# Altium integrated library NSC MiscPower.IntLib: 675 symbols (part 12 of 17)
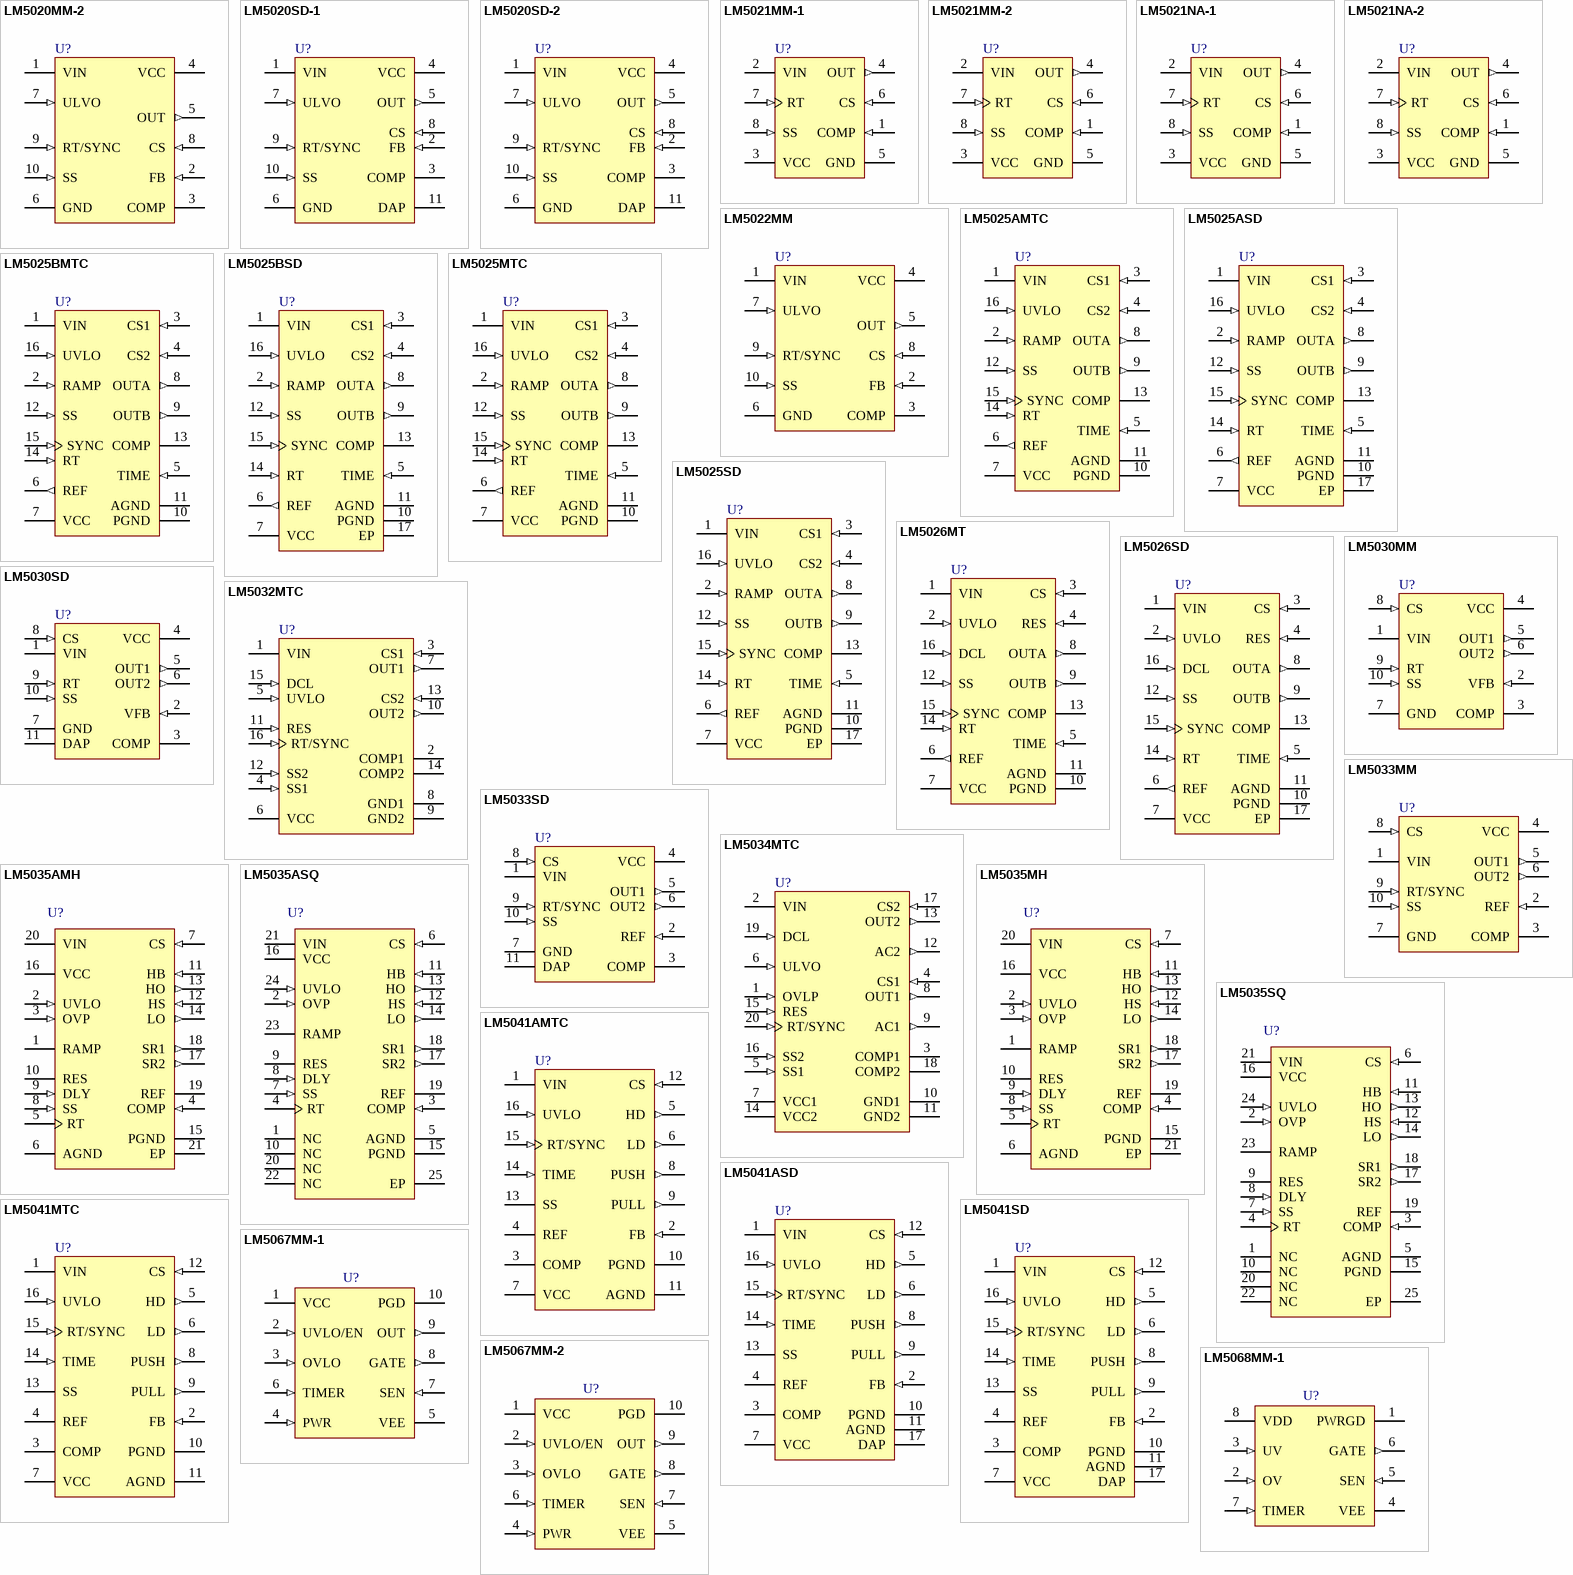
[diagram p33: symbols LM5020MM-2 to LM5068MM-1]

## LM5021NA-2
designator U?
AC-DC Current Mode PWM Controller; PartNumber: LM5021NA-2; Manufacturer: National Semiconductor; CompType: MiscPower; PackageTopMarking: NSUZXYTT*LM5021NA*-2; Published: 4-Dec-2008; DatasheetVersion: Jun-2006; PackageVersion: revG, May-2006; PackageReference: N08E; Publisher: Altium Limited; PackageDescription: MDIP, .365 x .250 x .130in, 8 Lead, .100in Pitch; RoHS: Y; PinCount: 8; DigiKeyPartNumber: LM5021NA-2-ND; Code_JEDEC: MS-001-BA; ComponentLink1Description: LM5021 Datasheet; ComponentLink1URL: http://www.national.com/ds/LM/LM5021.pdf; ComponentLink2Description: LM5021 Web Page; ComponentLink2URL: http://www.national.com/pf/LM/LM5021.html; ComponentLink3Description: N08E Package Page; ComponentLink3URL: http://www.national.com/packaging/folders/n08e.html
footprint N08E (DIP, 8-Leads, Row Spacing 7.62mm, Pitch 2.54mm, Body 9.91x6.35mm)
pins: 1 COMP (in), 2 VIN (power), 3 VCC (power), 4 OUT (out), 5 GND (power), 6 CS (in), 7 RT (in), 8 SS (in)

## LM5022MM
designator U?
60V Low Side  Controller for Boost and SEPIC; PartNumber: LM5022MM; Manufacturer: National Semiconductor; CompType: MiscPower; PackageTopMarking: ZXTT*5022; Published: 4-Dec-2008; DatasheetVersion: Aug-2007; PackageVersion: revB, Jul-2003; PackageReference: MUB10A; Publisher: Altium Limited; PackageDescription: Mini-SO, Molded, .118 x .118 x .034in Body, 10 Lead, .0197in Pitch; RoHS: Y; PinCount: 10; DigiKeyPartNumber: LM5022MMCT-ND; Code_JEDEC: MO-187-BA; ComponentLink1Description: LM5022 Datasheet; ComponentLink1URL: http://www.national.com/ds/LM/LM5022.pdf; ComponentLink2Description: LM5022 Web Page; ComponentLink2URL: http://www.national.com/pf/LM/LM5022.html; ComponentLink3Description: MUB10A Package Page; ComponentLink3URL: http://www.national.com/packaging/folders/mub10a.html
footprint MUB10A_N (TSSOP, 10-Leads, Body 3x3mm, Pitch 0.5mm, IPC Medium Density)
footprint MUB10A_L (TSSOP, 10-Leads, Body 3x3mm, Pitch 0.5mm, IPC High Density)
footprint MUB10A_M (TSSOP, 10-Leads, Body 3x3mm, Pitch 0.5mm, IPC Low Density)
pins: 1 VIN (power), 2 FB (in), 3 COMP, 4 VCC (power), 5 OUT (out), 6 GND (power), 7 ULVO (in), 8 CS (in), 9 RT/SYNC (in), 10 SS (in)

## LM5025AMTC
designator U?
Active Clamp Voltage Mode PWM Controller; PartNumber: LM5025AMTC; Manufacturer: National Semiconductor; CompType: MiscPower; PackageTopMarking: NSUZXYTT*L5025A*MTC; Published: 4-Dec-2008; DatasheetVersion: Dec-2004; PackageVersion: revD, Jun-2003; PackageReference: MTC16; Publisher: Altium Limited; PackageDescription: Molded TSSOP, Jedec, 5 x 4.4 x 0.9mm Body, 16 Lead, 0.65mm Pitch; RoHS: Y; PinCount: 16; DigiKeyPartNumber: LM5025AMTC-ND; Code_JEDEC: MO-153-AB; ComponentLink1Description: LM5025A Datasheet; ComponentLink1URL: http://www.national.com/ds/LM/LM5025A.pdf; ComponentLink2Description: LM5025A Web Page; ComponentLink2URL: http://www.national.com/pf/LM/LM5025A.html; ComponentLink3Description: MTC16 Package Page; ComponentLink3URL: http://www.national.com/packaging/folders/mtc16.html
footprint MTC16_N (TSOP, 16-Leads, Body 5x4.4mm, Pitch 0.65mm, IPC Medium Density)
footprint MTC16_L (TSOP, 16-Leads, Body 5x4.4mm, Pitch 0.65mm, IPC High Density)
footprint MTC16_M (TSOP, 16-Leads, Body 5x4.4mm, Pitch 0.65mm, IPC Low Density)
pins: 1 VIN (power), 2 RAMP (in), 3 CS1 (in), 4 CS2 (in), 5 TIME (in), 6 REF (out), 7 VCC (power), 8 OUTA (out), 9 OUTB (out), 10 PGND (power), 11 AGND (power), 12 SS (in), 13 COMP, 14 RT (in), 15 SYNC (in), 16 UVLO (in)

## LM5025ASD
designator U?
Active Clamp Voltage Mode PWM Controller; PartNumber: LM5025ASD; Manufacturer: National Semiconductor; CompType: MiscPower; PackageTopMarking: NS*UZXYTT*5025ASD; Published: 4-Dec-2008; DatasheetVersion: Dec-2004; PackageVersion: revA, May-2003; PackageReference: SDA16A; Publisher: Altium Limited; PackageDescription: LLP, Plastic, Dual, 5 x 5 x 0.8mm Body,16 Lead, 0.5mm Pitch, No Pullback; RoHS: Y; PinCount: 16; DigiKeyPartNumber: LM5025ASDCT-ND; ComponentLink1Description: LM5025A Datasheet; ComponentLink1URL: http://www.national.com/ds/LM/LM5025A.pdf; ComponentLink2Description: LM5025A Web Page; ComponentLink2URL: http://www.national.com/pf/LM/LM5025A.html; ComponentLink3Description: SDA16A Package Page; ComponentLink3URL: http://www.national.com/packaging/folders/sda16a.html
footprint SDA16A (SON, 16-Leads, Body 5x5mm, Pitch 0.5mm, NSC Recommended)
pins: 1 VIN (power), 2 RAMP (in), 3 CS1 (in), 4 CS2 (in), 5 TIME (in), 6 REF (out), 7 VCC (power), 8 OUTA (out), 9 OUTB (out), 10 PGND (power), 11 AGND (power), 12 SS (in), 13 COMP, 14 RT (in), 15 SYNC (in), 16 UVLO (in), 17 EP (power)

## LM5025BMTC
designator U?
Active Clamp Voltage Mode PWM Controller; PartNumber: LM5025BMTC; Manufacturer: National Semiconductor; CompType: MiscPower; PackageTopMarking: NSUZXYTT*L5025B*MTC; Published: 4-Dec-2008; DatasheetVersion: Mar-2006; PackageVersion: revD, Jun-2003; PackageReference: MTC16; Publisher: Altium Limited; PackageDescription: Molded TSSOP, Jedec, 5 x 4.4 x 0.9mm Body, 16 Lead, 0.65mm Pitch; RoHS: Y; PinCount: 16; DigiKeyPartNumber: LM5025BMTC-ND; Code_JEDEC: MO-153-AB; ComponentLink1Description: LM5025B Datasheet; ComponentLink1URL: http://www.national.com/ds/LM/LM5025B.pdf; ComponentLink2Description: LM5025B Web Page; ComponentLink2URL: http://www.national.com/pf/LM/LM5025B.html; ComponentLink3Description: MTC16 Package Page; ComponentLink3URL: http://www.national.com/packaging/folders/mtc16.html
footprint MTC16_N (TSOP, 16-Leads, Body 5x4.4mm, Pitch 0.65mm, IPC Medium Density)
footprint MTC16_L (TSOP, 16-Leads, Body 5x4.4mm, Pitch 0.65mm, IPC High Density)
footprint MTC16_M (TSOP, 16-Leads, Body 5x4.4mm, Pitch 0.65mm, IPC Low Density)
pins: 1 VIN (power), 2 RAMP (in), 3 CS1 (in), 4 CS2 (in), 5 TIME (in), 6 REF (out), 7 VCC (power), 8 OUTA (out), 9 OUTB (out), 10 PGND (power), 11 AGND (power), 12 SS (in), 13 COMP, 14 RT (in), 15 SYNC (in), 16 UVLO (in)

## LM5025BSD
designator U?
Active Clamp Voltage Mode PWM Controller; PartNumber: LM5025BSD; Manufacturer: National Semiconductor; CompType: MiscPower; PackageTopMarking: NS*UZXYTT*5025BSD; Published: 4-Dec-2008; DatasheetVersion: Mar-2006; PackageVersion: revA, May-2003; PackageReference: SDA16A; Publisher: Altium Limited; PackageDescription: LLP, Plastic, Dual, 5 x 5 x 0.8mm Body,16 Lead, 0.5mm Pitch, No Pullback; RoHS: Y; PinCount: 16; DigiKeyPartNumber: LM5025BSDCT-ND; ComponentLink1Description: LM5025B Datasheet; ComponentLink1URL: http://www.national.com/ds/LM/LM5025B.pdf; ComponentLink2Description: LM5025B Web Page; ComponentLink2URL: http://www.national.com/pf/LM/LM5025B.html; ComponentLink3Description: SDA16A Package Page; ComponentLink3URL: http://www.national.com/packaging/folders/sda16a.html
footprint SDA16A (SON, 16-Leads, Body 5x5mm, Pitch 0.5mm, NSC Recommended)
pins: 1 VIN (power), 2 RAMP (in), 3 CS1 (in), 4 CS2 (in), 5 TIME (in), 6 REF (out), 7 VCC (power), 8 OUTA (out), 9 OUTB (out), 10 PGND (power), 11 AGND (power), 12 SS (in), 13 COMP, 14 RT (in), 15 SYNC (in), 16 UVLO (in), 17 EP (power)

## LM5025MTC
designator U?
Active Clamp Voltage Mode PWM Controller; PartNumber: LM5025MTC; Manufacturer: National Semiconductor; CompType: MiscPower; PackageTopMarking: NSZXYTT*LM5025*MTC; Published: 4-Dec-2008; DatasheetVersion: Mar-2004; PackageVersion: revD, Jun-2003; PackageReference: MTC16; Publisher: Altium Limited; PackageDescription: Molded TSSOP, Jedec, 5 x 4.4 x 0.9mm Body, 16 Lead, 0.65mm Pitch; RoHS: Y; PinCount: 16; DigiKeyPartNumber: LM5025MTC-ND; Code_JEDEC: MO-153-AB; ComponentLink1Description: LM5025 Datasheet; ComponentLink1URL: http://www.national.com/ds/LM/LM5025.pdf; ComponentLink2Description: LM5025 Web Page; ComponentLink2URL: http://www.national.com/pf/LM/LM5025.html; ComponentLink3Description: MTC16 Package Page; ComponentLink3URL: http://www.national.com/packaging/folders/mtc16.html
footprint MTC16_N (TSOP, 16-Leads, Body 5x4.4mm, Pitch 0.65mm, IPC Medium Density)
footprint MTC16_L (TSOP, 16-Leads, Body 5x4.4mm, Pitch 0.65mm, IPC High Density)
footprint MTC16_M (TSOP, 16-Leads, Body 5x4.4mm, Pitch 0.65mm, IPC Low Density)
pins: 1 VIN (power), 2 RAMP (in), 3 CS1 (in), 4 CS2 (in), 5 TIME (in), 6 REF (out), 7 VCC (power), 8 OUTA (out), 9 OUTB (out), 10 PGND (power), 11 AGND (power), 12 SS (in), 13 COMP, 14 RT (in), 15 SYNC (in), 16 UVLO (in)

## LM5025SD
designator U?
Active Clamp Voltage Mode PWM Controller; PartNumber: LM5025SD; Manufacturer: National Semiconductor; CompType: MiscPower; PackageTopMarking: NS*UZXYTT*5025SD; Published: 4-Dec-2008; DatasheetVersion: Mar-2004; PackageVersion: revA, May-2003; PackageReference: SDA16A; Publisher: Altium Limited; PackageDescription: LLP, Plastic, Dual, 5 x 5 x 0.8mm Body,16 Lead, 0.5mm Pitch, No Pullback; RoHS: Y; PinCount: 16; DigiKeyPartNumber: LM5025SDCT-ND; ComponentLink1Description: LM5025 Datasheet; ComponentLink1URL: http://www.national.com/ds/LM/LM5025.pdf; ComponentLink2Description: LM5025 Web Page; ComponentLink2URL: http://www.national.com/pf/LM/LM5025.html; ComponentLink3Description: SDA16A Package Page; ComponentLink3URL: http://www.national.com/packaging/folders/sda16a.html
footprint SDA16A (SON, 16-Leads, Body 5x5mm, Pitch 0.5mm, NSC Recommended)
pins: 1 VIN (power), 2 RAMP (in), 3 CS1 (in), 4 CS2 (in), 5 TIME (in), 6 REF (out), 7 VCC (power), 8 OUTA (out), 9 OUTB (out), 10 PGND (power), 11 AGND (power), 12 SS (in), 13 COMP, 14 RT (in), 15 SYNC (in), 16 UVLO (in), 17 EP (power)

## LM5026MT
designator U?
Active Clamp Current Mode PWM Controller; PartNumber: LM5026MT; Manufacturer: National Semiconductor; CompType: MiscPower; PackageTopMarking: NSUZXYTT*LM5026*MT; Published: 4-Dec-2008; DatasheetVersion: Jan-2006; PackageVersion: revD, Jun-2003; PackageReference: MTC16; Publisher: Altium Limited; PackageDescription: Molded TSSOP, Jedec, 5 x 4.4 x 0.9mm Body, 16 Lead, 0.65mm Pitch; RoHS: Y; PinCount: 16; DigiKeyPartNumber: LM5026MT-ND; Code_JEDEC: MO-153-AB; ComponentLink1Description: LM5026 Datasheet; ComponentLink1URL: http://www.national.com/ds/LM/LM5026.pdf; ComponentLink2Description: LM5026 Web Page; ComponentLink2URL: http://www.national.com/pf/LM/LM5026.html; ComponentLink3Description: MTC16 Package Page; ComponentLink3URL: http://www.national.com/packaging/folders/mtc16.html
footprint MTC16_N (TSOP, 16-Leads, Body 5x4.4mm, Pitch 0.65mm, IPC Medium Density)
footprint MTC16_L (TSOP, 16-Leads, Body 5x4.4mm, Pitch 0.65mm, IPC High Density)
footprint MTC16_M (TSOP, 16-Leads, Body 5x4.4mm, Pitch 0.65mm, IPC Low Density)
pins: 1 VIN (power), 2 UVLO (in), 3 CS (in), 4 RES (in), 5 TIME (in), 6 REF (out), 7 VCC (power), 8 OUTA (out), 9 OUTB (out), 10 PGND (power), 11 AGND (power), 12 SS (in), 13 COMP, 14 RT (in), 15 SYNC (in), 16 DCL (in)

## LM5026SD
designator U?
Active Clamp Current Mode PWM Controller; PartNumber: LM5026SD; Manufacturer: National Semiconductor; CompType: MiscPower; PackageTopMarking: NS*UZXYTT*5026SD; Published: 4-Dec-2008; DatasheetVersion: Jan-2006; PackageVersion: revA, May-2003; PackageReference: SDA16A; Publisher: Altium Limited; PackageDescription: LLP, Plastic, Dual, 5 x 5 x 0.8mm Body,16 Lead, 0.5mm Pitch, No Pullback; RoHS: Y; PinCount: 16; DigiKeyPartNumber: LM5026SDCT-ND; ComponentLink1Description: LM5026 Datasheet; ComponentLink1URL: http://www.national.com/ds/LM/LM5026.pdf; ComponentLink2Description: LM5026 Web Page; ComponentLink2URL: http://www.national.com/pf/LM/LM5026.html; ComponentLink3Description: SDA16A Package Page; ComponentLink3URL: http://www.national.com/packaging/folders/sda16a.html
footprint SDA16A (SON, 16-Leads, Body 5x5mm, Pitch 0.5mm, NSC Recommended)
pins: 1 VIN (power), 2 UVLO (in), 3 CS (in), 4 RES (in), 5 TIME (in), 6 REF (out), 7 VCC (power), 8 OUTA (out), 9 OUTB (out), 10 PGND (power), 11 AGND (power), 12 SS (in), 13 COMP, 14 RT (in), 15 SYNC (in), 16 DCL (in), 17 EP (power)

## LM5030MM
designator U?
100V Push-Pull Current Mode PWM Controller; PartNumber: LM5030MM; Manufacturer: National Semiconductor; CompType: MiscPower; PackageTopMarking: ZXTT*S73B; Published: 4-Dec-2008; DatasheetVersion: Mar-2005; PackageVersion: revB, Jul-2003; PackageReference: MUB10A; Publisher: Altium Limited; PackageDescription: Mini-SO, Molded, .118 x .118 x .034in Body, 10 Lead, .0197in Pitch; RoHS: Y; PinCount: 10; DigiKeyPartNumber: LM5030MMCT-ND; Code_JEDEC: MO-187-BA; ComponentLink1Description: LM5030 Datasheet; ComponentLink1URL: http://www.national.com/ds/LM/LM5030.pdf; ComponentLink2Description: LM5030 Web Page; ComponentLink2URL: http://www.national.com/pf/LM/LM5030.html; ComponentLink3Description: MUB10A Package Page; ComponentLink3URL: http://www.national.com/packaging/folders/mub10a.html
footprint MUB10A_N (TSSOP, 10-Leads, Body 3x3mm, Pitch 0.5mm, IPC Medium Density)
footprint MUB10A_L (TSSOP, 10-Leads, Body 3x3mm, Pitch 0.5mm, IPC High Density)
footprint MUB10A_M (TSSOP, 10-Leads, Body 3x3mm, Pitch 0.5mm, IPC Low Density)
pins: 1 VIN (power), 2 VFB (in), 3 COMP, 4 VCC (power), 5 OUT1 (out), 6 OUT2 (out), 7 GND (power), 8 CS (in), 9 RT (in), 10 SS (in)

## LM5030SD
designator U?
100V Push-Pull Current Mode PWM Controller; PartNumber: LM5030SD; Manufacturer: National Semiconductor; CompType: MiscPower; PackageTopMarking: NS*UZXYTT*5030SD; Published: 4-Dec-2008; DatasheetVersion: Mar-2005; PackageVersion: revA, May-2003; PackageReference: SDC10A; Publisher: Altium Limited; PackageDescription: LLP, Plastic, Dual, 4 x 4 x 0.8mm Body, 10 Lead, 0.8mm Pitch, No Pullback; RoHS: Y; PinCount: 10; DigiKeyPartNumber: LM5030SDCT-ND; ComponentLink1Description: LM5030 Datasheet; ComponentLink1URL: http://www.national.com/ds/LM/LM5030.pdf; ComponentLink2Description: LM5030 Web Page; ComponentLink2URL: http://www.national.com/pf/LM/LM5030.html; ComponentLink3Description: SDC10A Package Page; ComponentLink3URL: http://www.national.com/packaging/folders/sdc10a.html
footprint SDC10A (SON, 10-Leads, Body 4x4 mm, Pitch 0.8mm, NSC Recommended)
pins: 1 VIN (power), 2 VFB (in), 3 COMP, 4 VCC (power), 5 OUT1 (out), 6 OUT2 (out), 7 GND (power), 8 CS (in), 9 RT (in), 10 SS (in), 11 DAP (power)

## LM5032MTC
designator U?
High Voltage Dual Interleaved Current Mode Controller; PartNumber: LM5032MTC; Manufacturer: National Semiconductor; CompType: MiscPower; PackageTopMarking: NSUZXYTT*LM5032*MTC; Published: 4-Dec-2008; DatasheetVersion: Mar-2005; PackageVersion: revD, Jun-2003; PackageReference: MTC16; Publisher: Altium Limited; PackageDescription: Molded TSSOP, Jedec, 5 x 4.4 x 0.9mm Body, 16 Lead, 0.65mm Pitch; RoHS: Y; PinCount: 16; DigiKeyPartNumber: LM5032MTC-ND; Code_JEDEC: MO-153-AB; ComponentLink1Description: LM5032 Datasheet; ComponentLink1URL: http://www.national.com/ds/LM/LM5032.pdf; ComponentLink2Description: LM5032 Web Page; ComponentLink2URL: http://www.national.com/pf/LM/LM5032.html; ComponentLink3Description: MTC16 Package Page; ComponentLink3URL: http://www.national.com/packaging/folders/mtc16.html
footprint MTC16_N (TSOP, 16-Leads, Body 5x4.4mm, Pitch 0.65mm, IPC Medium Density)
footprint MTC16_L (TSOP, 16-Leads, Body 5x4.4mm, Pitch 0.65mm, IPC High Density)
footprint MTC16_M (TSOP, 16-Leads, Body 5x4.4mm, Pitch 0.65mm, IPC Low Density)
pins: 1 VIN (power), 2 COMP1, 3 CS1 (in), 4 SS1 (in), 5 UVLO (in), 6 VCC (power), 7 OUT1 (out), 8 GND1 (power), 9 GND2 (power), 10 OUT2 (out), 11 RES (in), 12 SS2 (in), 13 CS2 (in), 14 COMP2, 15 DCL (in), 16 RT/SYNC (in)

## LM5033MM
designator U?
100V Push-Pull Voltage Mode PWM Controller; PartNumber: LM5033MM; Manufacturer: National Semiconductor; CompType: MiscPower; PackageTopMarking: ZXTT*SCVB; Published: 4-Dec-2008; DatasheetVersion: Feb-2005; PackageVersion: revB, Jul-2003; PackageReference: MUB10A; Publisher: Altium Limited; PackageDescription: Mini-SO, Molded, .118 x .118 x .034in Body, 10 Lead, .0197in Pitch; RoHS: Y; PinCount: 10; DigiKeyPartNumber: LM5033MMCT-ND; Code_JEDEC: MO-187-BA; ComponentLink1Description: LM5033 Datasheet; ComponentLink1URL: http://www.national.com/ds/LM/LM5033.pdf; ComponentLink2Description: LM5033 Web Page; ComponentLink2URL: http://www.national.com/pf/LM/LM5033.html; ComponentLink3Description: MUB10A Package Page; ComponentLink3URL: http://www.national.com/packaging/folders/mub10a.html
footprint MUB10A_N (TSSOP, 10-Leads, Body 3x3mm, Pitch 0.5mm, IPC Medium Density)
footprint MUB10A_L (TSSOP, 10-Leads, Body 3x3mm, Pitch 0.5mm, IPC High Density)
footprint MUB10A_M (TSSOP, 10-Leads, Body 3x3mm, Pitch 0.5mm, IPC Low Density)
pins: 1 VIN (power), 2 REF (in), 3 COMP, 4 VCC (power), 5 OUT1 (out), 6 OUT2 (out), 7 GND (power), 8 CS (in), 9 RT/SYNC (in), 10 SS (in)

## LM5033SD
designator U?
100V Push-Pull Voltage Mode PWM Controller; PartNumber: LM5033SD; Manufacturer: National Semiconductor; CompType: MiscPower; PackageTopMarking: NS*UZXYTT*5033SD; Published: 4-Dec-2008; DatasheetVersion: Feb-2005; PackageVersion: revA, May-2003; PackageReference: SDC10A; Publisher: Altium Limited; PackageDescription: LLP, Plastic, Dual, 4 x 4 x 0.8mm Body, 10 Lead, 0.8mm Pitch, No Pullback; RoHS: Y; PinCount: 10; DigiKeyPartNumber: LM5033SDCT-ND; ComponentLink1Description: LM5033 Datasheet; ComponentLink1URL: http://www.national.com/ds/LM/LM5033.pdf; ComponentLink2Description: LM5033 Web Page; ComponentLink2URL: http://www.national.com/pf/LM/LM5033.html; ComponentLink3Description: SDC10A Package Page; ComponentLink3URL: http://www.national.com/packaging/folders/sdc10a.html
footprint SDC10A (SON, 10-Leads, Body 4x4 mm, Pitch 0.8mm, NSC Recommended)
pins: 1 VIN (power), 2 REF (in), 3 COMP, 4 VCC (power), 5 OUT1 (out), 6 OUT2 (out), 7 GND (power), 8 CS (in), 9 RT/SYNC (in), 10 SS (in), 11 DAP (power)

## LM5034MTC
designator U?
High Voltage Dual Interleaved Current Mode Controller with Active Clamp; PartNumber: LM5034MTC; Manufacturer: National Semiconductor; CompType: MiscPower; PackageTopMarking: NSUZXYTT*LM5034*MT; Published: 4-Dec-2008; DatasheetVersion: Feb-2005; PackageVersion: revE, Mar-2003; PackageReference: MTC20; Publisher: Altium Limited; PackageDescription: Molded TSSOP, Jedec, 6.5 x 4.4 x 0.9mm Body, 20 Lead, 0.65mm Pitch; RoHS: O; PinCount: 20; DigiKeyPartNumber: LM5034MTC-ND; Code_JEDEC: MO-153-AC; ComponentLink1Description: LM5034 Datasheet; ComponentLink1URL: http://www.national.com/ds/LM/LM5034.pdf; ComponentLink2Description: LM5034 Web Page; ComponentLink2URL: http://www.national.com/pf/LM/LM5034.html; ComponentLink3Description: MTC20 Package Page; ComponentLink3URL: http://www.national.com/packaging/folders/mtc20.html
footprint MTC20_N (TSOP, 20-Leads, Body 6.5x4.4mm, Pitch 0.65mm, IPC Medium Density)
footprint MTC20_L (TSOP, 20-Leads, Body 6.5x4.4mm, Pitch 0.65mm, IPC High Density)
footprint MTC20_M (TSOP, 20-Leads, Body 6.5x4.4mm, Pitch 0.65mm, IPC Low Density)
pins: 1 OVLP (in), 2 VIN (power), 3 COMP1, 4 CS1 (in), 5 SS1 (in), 6 ULVO (in), 7 VCC1 (power), 8 OUT1 (out), 9 AC1 (out), 10 GND1 (power), 11 GND2 (power), 12 AC2 (out), 13 OUT2 (out), 14 VCC2 (power), 15 RES (in), 16 SS2 (in), 17 CS2 (in), 18 COMP2, 19 DCL (in), 20 RT/SYNC (in)

## LM5035AMH
designator U?
PWM Controller with Integrated  Half-Bridge and SyncFET Drivers; PartNumber: LM5035AMH; Manufacturer: National Semiconductor; CompType: MiscPower; PackageTopMarking: NSUZXYTT*LM5035*AMH; Published: 4-Dec-2008; DatasheetVersion: Jul-2008; PackageVersion: revC, Jul-2006; PackageReference: MXA20A; Publisher: Altium Limited; PackageDescription: Molded TSSOP, Jedec, 6.5 x 4.4 x 0.9mm Body, 20 Lead, 0.65mm Pitch, Exposed Pad; RoHS: Y; PinCount: 20; DigiKeyPartNumber: LM5035AMH-ND; Code_JEDEC: MO-153-ACT; ComponentLink1Description: LM5035A Datasheet; ComponentLink1URL: http://www.national.com/ds/LM/LM5035A.pdf; ComponentLink2Description: LM5035A Web Page; ComponentLink2URL: http://www.national.com/pf/LM/LM5035A.html; ComponentLink3Description: MXA20A Package Page; ComponentLink3URL: http://www.national.com/packaging/folders/mxa20a.html
footprint MXA20A_N (TSOP, 20-Leads, Body 6.5x4.4mm, Pitch 0.65mm, Exposed Pad, IPC Medium Density)
footprint MXA20A_L (TSOP, 20-Leads, Body 6.5x4.4mm, Pitch 0.65mm, Exposed Pad, IPC High Density)
footprint MXA20A_M (TSOP, 20-Leads, Body 6.5x4.4mm, Pitch 0.65mm, Exposed Pad, IPC Low Density)
pins: 1 RAMP, 2 UVLO (in), 3 OVP (in), 4 COMP (in), 5 RT (power), 6 AGND (power), 7 CS (in), 8 SS (in), 9 DLY (in), 10 RES, 11 HB (in), 12 HS (in), 13 HO (out), 14 LO (out), 15 PGND (power), 16 VCC (power), 17 SR2 (out), 18 SR1 (out), 19 REF (power), 20 VIN (power), 21 EP (power)

## LM5035ASQ
designator U?
PWM Controller with Integrated  Half-Bridge and SyncFET Drivers; PartNumber: LM5035ASQ; Manufacturer: National Semiconductor; CompType: MiscPower; PackageTopMarking: NS*UZXYTT*5035ASQ; Published: 4-Dec-2008; DatasheetVersion: Jul-2008; PackageVersion: revA, Oct-2003; PackageReference: SQA24B; Publisher: Altium Limited; PackageDescription: LLP, Plastic, Quad, 5 x 4 x 0.8mm Body, 24 Lead, 0.5mm Pitch, No Pullback; RoHS: Y; PinCount: 24; DigiKeyPartNumber: LM5035ASQCT-ND; Code_JEDEC: MO-220-WGHD-1; ComponentLink1Description: LM5035A Datasheet; ComponentLink1URL: http://www.national.com/ds/LM/LM5035A.pdf; ComponentLink2Description: LM5035A Web Page; ComponentLink2URL: http://www.national.com/pf/LM/LM5035A.html; ComponentLink3Description: SQA24B Package Page; ComponentLink3URL: http://www.national.com/packaging/folders/sqa24b.html
footprint SQA24B (QFN, 24-Leads, Body 5x4mm, Pitch 0.5mm, NSC Recommended)
pins: 1 NC, 2 OVP (in), 3 COMP (in), 4 RT (power), 5 AGND (power), 6 CS (in), 7 SS (in), 8 DLY (in), 9 RES, 10 NC, 11 HB (in), 12 HS (in), 13 HO (out), 14 LO (out), 15 PGND (power), 16 VCC (power), 17 SR2 (out), 18 SR1 (out), 19 REF (power), 20 NC, 21 VIN (power), 22 NC, 23 RAMP, 24 UVLO (in), 25 EP (power)

## LM5035MH
designator U?
PWM Controller with Integrated  Half-Bridge and SyncFET Drivers; PartNumber: LM5035MH; Manufacturer: National Semiconductor; CompType: MiscPower; PackageTopMarking: NSUZXYTT*LM5035*MH; Published: 4-Dec-2008; DatasheetVersion: Jul-2008; PackageVersion: revC, Jul-2006; PackageReference: MXA20A; Publisher: Altium Limited; PackageDescription: Molded TSSOP, Jedec, 6.5 x 4.4 x 0.9mm Body, 20 Lead, 0.65mm Pitch, Exposed Pad; RoHS: Y; PinCount: 20; DigiKeyPartNumber: LM5035MH-ND; Code_JEDEC: MO-153-ACT; ComponentLink1Description: LM5035 Datasheet; ComponentLink1URL: http://www.national.com/ds/LM/LM5035.pdf; ComponentLink2Description: LM5035 Web Page; ComponentLink2URL: http://www.national.com/pf/LM/LM5035.html; ComponentLink3Description: MXA20A Package Page; ComponentLink3URL: http://www.national.com/packaging/folders/mxa20a.html
footprint MXA20A_N (TSOP, 20-Leads, Body 6.5x4.4mm, Pitch 0.65mm, Exposed Pad, IPC Medium Density)
footprint MXA20A_L (TSOP, 20-Leads, Body 6.5x4.4mm, Pitch 0.65mm, Exposed Pad, IPC High Density)
footprint MXA20A_M (TSOP, 20-Leads, Body 6.5x4.4mm, Pitch 0.65mm, Exposed Pad, IPC Low Density)
pins: 1 RAMP, 2 UVLO (in), 3 OVP (in), 4 COMP (in), 5 RT (power), 6 AGND (power), 7 CS (in), 8 SS (in), 9 DLY (in), 10 RES, 11 HB (in), 12 HS (in), 13 HO (out), 14 LO (out), 15 PGND (power), 16 VCC (power), 17 SR2 (out), 18 SR1 (out), 19 REF (power), 20 VIN (power), 21 EP (power)

## LM5035SQ
designator U?
PWM Controller with Integrated  Half-Bridge and SyncFET Drivers; PartNumber: LM5035SQ; Manufacturer: National Semiconductor; CompType: MiscPower; PackageTopMarking: NS*UZXYTT*L5035SQ; Published: 4-Dec-2008; DatasheetVersion: Jul-2008; PackageVersion: revA, Oct-2003; PackageReference: SQA24B; Publisher: Altium Limited; PackageDescription: LLP, Plastic, Quad, 5 x 4 x 0.8mm Body, 24 Lead, 0.5mm Pitch, No Pullback; RoHS: Y; PinCount: 24; DigiKeyPartNumber: LM5035SQCT-ND; Code_JEDEC: MO-220-WGHD-1; ComponentLink1Description: LM5035 Datasheet; ComponentLink1URL: http://www.national.com/ds/LM/LM5035.pdf; ComponentLink2Description: LM5035 Web Page; ComponentLink2URL: http://www.national.com/pf/LM/LM5035.html; ComponentLink3Description: SQA24B Package Page; ComponentLink3URL: http://www.national.com/packaging/folders/sqa24b.html
footprint SQA24B (QFN, 24-Leads, Body 5x4mm, Pitch 0.5mm, NSC Recommended)
pins: 1 NC, 2 OVP (in), 3 COMP (in), 4 RT (power), 5 AGND (power), 6 CS (in), 7 SS (in), 8 DLY (in), 9 RES, 10 NC, 11 HB (in), 12 HS (in), 13 HO (out), 14 LO (out), 15 PGND (power), 16 VCC (power), 17 SR2 (out), 18 SR1 (out), 19 REF (power), 20 NC, 21 VIN (power), 22 NC, 23 RAMP, 24 UVLO (in), 25 EP (power)

## LM5041AMTC
designator U?
Cascaded PWM Controller; PartNumber: LM5041AMTC; Manufacturer: National Semiconductor; CompType: MiscPower; PackageTopMarking: NSUZXYTT*LM5041A*MTC; Published: 4-Dec-2008; DatasheetVersion: May-2005; PackageVersion: revD, Jun-2003; PackageReference: MTC16; Publisher: Altium Limited; PackageDescription: Molded TSSOP, Jedec, 5 x 4.4 x 0.9mm Body, 16 Lead, 0.65mm Pitch; RoHS: Y; PinCount: 16; DigiKeyPartNumber: LM5041AMTC-ND; Code_JEDEC: MO-153-AB; ComponentLink1Description: LM5041A Datasheet; ComponentLink1URL: http://www.national.com/ds/LM/LM5041A.pdf; ComponentLink2Description: LM5041A Web Page; ComponentLink2URL: http://www.national.com/pf/LM/LM5041A.html; ComponentLink3Description: MTC16 Package Page; ComponentLink3URL: http://www.national.com/packaging/folders/mtc16.html
footprint MTC16_N (TSOP, 16-Leads, Body 5x4.4mm, Pitch 0.65mm, IPC Medium Density)
footprint MTC16_L (TSOP, 16-Leads, Body 5x4.4mm, Pitch 0.65mm, IPC High Density)
footprint MTC16_M (TSOP, 16-Leads, Body 5x4.4mm, Pitch 0.65mm, IPC Low Density)
pins: 1 VIN (power), 2 FB (in), 3 COMP, 4 REF (power), 5 HD (out), 6 LD (out), 7 VCC (power), 8 PUSH (out), 9 PULL (out), 10 PGND (power), 11 AGND (power), 12 CS (in), 13 SS, 14 TIME (in), 15 RT/SYNC (in), 16 UVLO (in)

## LM5041ASD
designator U?
Cascaded PWM Controller; PartNumber: LM5041ASD; Manufacturer: National Semiconductor; CompType: MiscPower; PackageTopMarking: NS*UZXYTT*5041ASD; Published: 4-Dec-2008; DatasheetVersion: May-2005; PackageVersion: revA, May-2003; PackageReference: SDA16A; Publisher: Altium Limited; PackageDescription: LLP, Plastic, Dual, 5 x 5 x 0.8mm Body,16 Lead, 0.5mm Pitch, No Pullback; RoHS: Y; PinCount: 16; DigiKeyPartNumber: LM5041ASDCT-ND; ComponentLink1Description: LM5041A Datasheet; ComponentLink1URL: http://www.national.com/ds/LM/LM5041A.pdf; ComponentLink2Description: LM5041A Web Page; ComponentLink2URL: http://www.national.com/pf/LM/LM5041A.html; ComponentLink3Description: SDA16A Package Page; ComponentLink3URL: http://www.national.com/packaging/folders/sda16a.html
footprint SDA16A (SON, 16-Leads, Body 5x5mm, Pitch 0.5mm, NSC Recommended)
pins: 1 VIN (power), 2 FB (in), 3 COMP, 4 REF (power), 5 HD (out), 6 LD (out), 7 VCC (power), 8 PUSH (out), 9 PULL (out), 10 PGND (power), 11 AGND (power), 12 CS (in), 13 SS, 14 TIME (in), 15 RT/SYNC (in), 16 UVLO (in), 17 DAP (power)

## LM5041MTC
designator U?
Cascaded PWM Controller; PartNumber: LM5041MTC; Manufacturer: National Semiconductor; CompType: MiscPower; PackageTopMarking: NSZXYTT*LM5041*MTC; Published: 4-Dec-2008; DatasheetVersion: Apr-2004; PackageVersion: revD, Jun-2003; PackageReference: MTC16; Publisher: Altium Limited; PackageDescription: Molded TSSOP, Jedec, 5 x 4.4 x 0.9mm Body, 16 Lead, 0.65mm Pitch; RoHS: Y; PinCount: 16; DigiKeyPartNumber: LM5041MTC-ND; Code_JEDEC: MO-153-AB; ComponentLink1Description: LM5041 Datasheet; ComponentLink1URL: http://www.national.com/ds/LM/LM5041.pdf; ComponentLink2Description: LM5041 Web Page; ComponentLink2URL: http://www.national.com/pf/LM/LM5041.html; ComponentLink3Description: MTC16 Package Page; ComponentLink3URL: http://www.national.com/packaging/folders/mtc16.html
footprint MTC16_N (TSOP, 16-Leads, Body 5x4.4mm, Pitch 0.65mm, IPC Medium Density)
footprint MTC16_L (TSOP, 16-Leads, Body 5x4.4mm, Pitch 0.65mm, IPC High Density)
footprint MTC16_M (TSOP, 16-Leads, Body 5x4.4mm, Pitch 0.65mm, IPC Low Density)
pins: 1 VIN (power), 2 FB (in), 3 COMP, 4 REF (power), 5 HD (out), 6 LD (out), 7 VCC (power), 8 PUSH (out), 9 PULL (out), 10 PGND (power), 11 AGND (power), 12 CS (in), 13 SS, 14 TIME (in), 15 RT/SYNC (in), 16 UVLO (in)

## LM5041SD
designator U?
Cascaded PWM Controller; PartNumber: LM5041SD; Manufacturer: National Semiconductor; CompType: MiscPower; PackageTopMarking: NS*UZXYTT*5041SD; Published: 4-Dec-2008; DatasheetVersion: Apr-2004; PackageVersion: revA, May-2003; PackageReference: SDA16A; Publisher: Altium Limited; PackageDescription: LLP, Plastic, Dual, 5 x 5 x 0.8mm Body,16 Lead, 0.5mm Pitch, No Pullback; RoHS: O; PinCount: 16; DigiKeyPartNumber: LM5041SDCT-ND; ComponentLink1Description: LM5041 Datasheet; ComponentLink1URL: http://www.national.com/ds/LM/LM5041.pdf; ComponentLink2Description: LM5041 Web Page; ComponentLink2URL: http://www.national.com/pf/LM/LM5041.html; ComponentLink3Description: SDA16A Package Page; ComponentLink3URL: http://www.national.com/packaging/folders/sda16a.html
footprint SDA16A (SON, 16-Leads, Body 5x5mm, Pitch 0.5mm, NSC Recommended)
pins: 1 VIN (power), 2 FB (in), 3 COMP, 4 REF (power), 5 HD (out), 6 LD (out), 7 VCC (power), 8 PUSH (out), 9 PULL (out), 10 PGND (power), 11 AGND (power), 12 CS (in), 13 SS, 14 TIME (in), 15 RT/SYNC (in), 16 UVLO (in), 17 DAP (power)

## LM5067MM-1
designator U?
Negative Hot Swap / Inrush Current Controller with Power Limiting; PartNumber: LM5067MM-1; Manufacturer: National Semiconductor; CompType: MiscPower; PackageTopMarking: ZXTT*SRUB; Published: 4-Dec-2008; DatasheetVersion: Mar-2008; PackageVersion: revB, Jul-2003; PackageReference: MUB10A; Publisher: Altium Limited; PackageDescription: Mini-SO, Molded, .118 x .118 x .034in Body, 10 Lead, .0197in Pitch; RoHS: Y; PinCount: 10; DigiKeyPartNumber: LM5067MM-1CT-ND; Code_JEDEC: MO-187-BA; ComponentLink1Description: LM5067 Datasheet; ComponentLink1URL: http://www.national.com/ds/LM/LM5067.pdf; ComponentLink2Description: LM5067 Web Page; ComponentLink2URL: http://www.national.com/pf/LM/LM5067.html; ComponentLink3Description: MUB10A Package Page; ComponentLink3URL: http://www.national.com/packaging/folders/mub10a.html
footprint MUB10A_N (TSSOP, 10-Leads, Body 3x3mm, Pitch 0.5mm, IPC Medium Density)
footprint MUB10A_L (TSSOP, 10-Leads, Body 3x3mm, Pitch 0.5mm, IPC High Density)
footprint MUB10A_M (TSSOP, 10-Leads, Body 3x3mm, Pitch 0.5mm, IPC Low Density)
pins: 1 VCC (power), 2 UVLO/EN (in), 3 OVLO (in), 4 PWR (in), 5 VEE (power), 6 TIMER (in), 7 SEN (in), 8 GATE (out), 9 OUT (out), 10 PGD (oc)

## LM5067MM-2
designator U?
Negative Hot Swap / Inrush Current Controller with Power Limiting; PartNumber: LM5067MM-2; Manufacturer: National Semiconductor; CompType: MiscPower; PackageTopMarking: ZXTT*SRVB; Published: 4-Dec-2008; DatasheetVersion: Mar-2008; PackageVersion: revB, Jul-2003; PackageReference: MUB10A; Publisher: Altium Limited; PackageDescription: Mini-SO, Molded, .118 x .118 x .034in Body, 10 Lead, .0197in Pitch; RoHS: Y; PinCount: 10; DigiKeyPartNumber: LM5067MM-2CT-ND; Code_JEDEC: MO-187-BA; ComponentLink1Description: LM5067 Datasheet; ComponentLink1URL: http://www.national.com/ds/LM/LM5067.pdf; ComponentLink2Description: LM5067 Web Page; ComponentLink2URL: http://www.national.com/pf/LM/LM5067.html; ComponentLink3Description: MUB10A Package Page; ComponentLink3URL: http://www.national.com/packaging/folders/mub10a.html
footprint MUB10A_N (TSSOP, 10-Leads, Body 3x3mm, Pitch 0.5mm, IPC Medium Density)
footprint MUB10A_L (TSSOP, 10-Leads, Body 3x3mm, Pitch 0.5mm, IPC High Density)
footprint MUB10A_M (TSSOP, 10-Leads, Body 3x3mm, Pitch 0.5mm, IPC Low Density)
pins: 1 VCC (power), 2 UVLO/EN (in), 3 OVLO (in), 4 PWR (in), 5 VEE (power), 6 TIMER (in), 7 SEN (in), 8 GATE (out), 9 OUT (out), 10 PGD (oc)

## LM5068MM-1
designator U?
Negative Voltage Hot Swap Controller; PartNumber: LM5068MM-1; Manufacturer: National Semiconductor; CompType: MiscPower; PackageTopMarking: ZXTT*S66B; Published: 4-Dec-2008; DatasheetVersion: Dec-2004; PackageVersion: revF, Apr-2008; PackageReference: MUA08A; Publisher: Altium Limited; PackageDescription: MINI SOIC, .118 x .118 x .034in, 8 Lead, .0256in Pitch; RoHS: Y; PinCount: 8; DigiKeyPartNumber: LM5068MM-1CT-ND; Code_JEDEC: MO-187-AA; ComponentLink1Description: LM5068 Datasheet; ComponentLink1URL: http://www.national.com/ds/LM/LM5068.pdf; ComponentLink2Description: LM5068 Web Page; ComponentLink2URL: http://www.national.com/pf/LM/LM5068.html; ComponentLink3Description: MUA08A Package Page; ComponentLink3URL: http://www.national.com/packaging/folders/mua08a.html
footprint MUA08A_N (TSOP, 8-Leads, Body 3x3mm, Pitch 0.65mm, IPC Medium Density)
footprint MUA08A_L (TSOP, 8-Leads, Body 3x3mm, Pitch 0.65mm, IPC High Density)
footprint MUA08A_M (TSOP, 8-Leads, Body 3x3mm, Pitch 0.65mm, IPC Low Density)
pins: 1 PWRGD (oc), 2 OV (in), 3 UV (in), 4 VEE (power), 5 SEN (in), 6 GATE (out), 7 TIMER (in), 8 VDD (power)

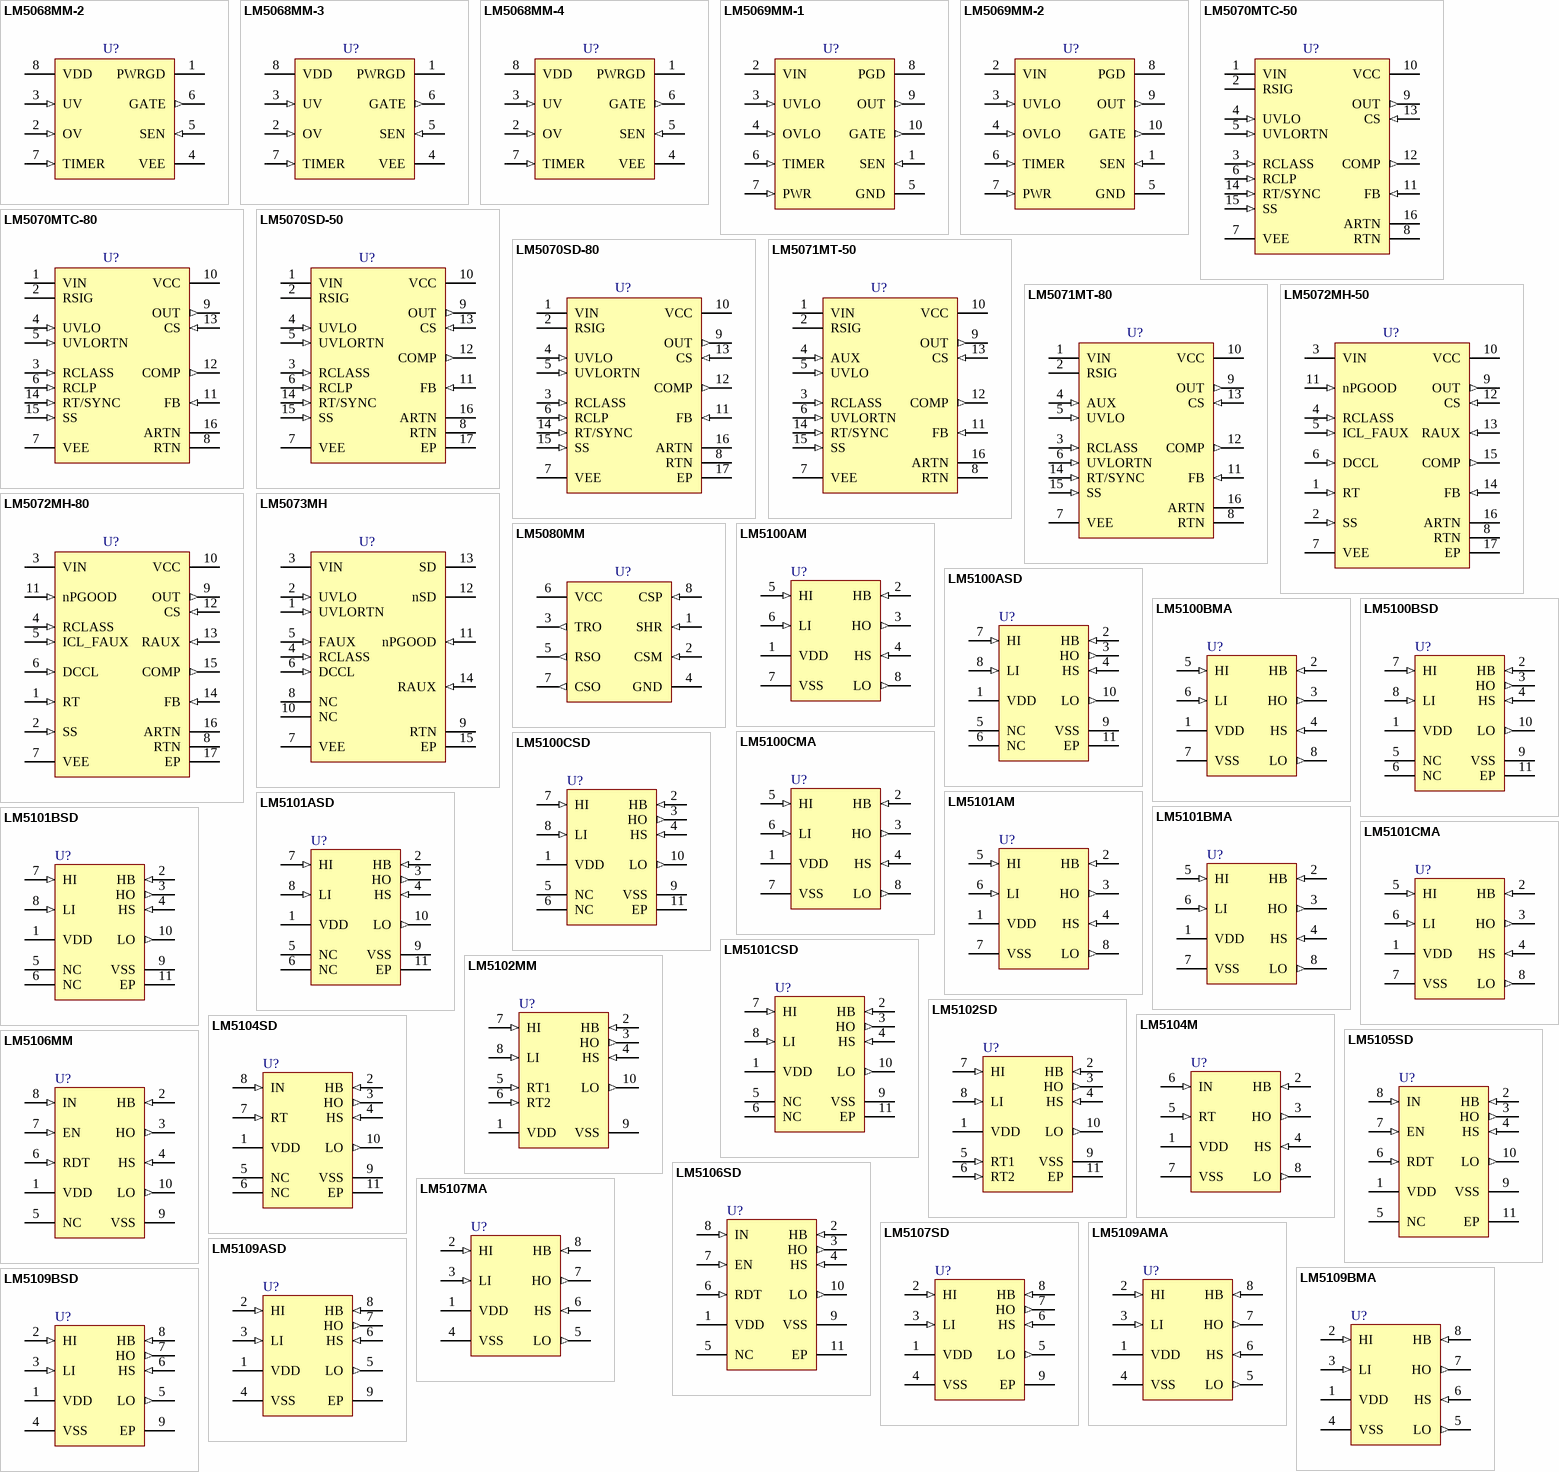
[diagram p14: symbols LM5068MM-2 to LM5109BSD]

## LM5068MM-2
designator U?
Negative Voltage Hot Swap Controller; PartNumber: LM5068MM-2; Manufacturer: National Semiconductor; CompType: MiscPower; PackageTopMarking: ZXTT*S67B; Published: 4-Dec-2008; DatasheetVersion: Dec-2004; PackageVersion: revF, Apr-2008; PackageReference: MUA08A; Publisher: Altium Limited; PackageDescription: MINI SOIC, .118 x .118 x .034in, 8 Lead, .0256in Pitch; RoHS: Y; PinCount: 8; DigiKeyPartNumber: LM5068MM-2CT-ND; Code_JEDEC: MO-187-AA; ComponentLink1Description: LM5068 Datasheet; ComponentLink1URL: http://www.national.com/ds/LM/LM5068.pdf; ComponentLink2Description: LM5068 Web Page; ComponentLink2URL: http://www.national.com/pf/LM/LM5068.html; ComponentLink3Description: MUA08A Package Page; ComponentLink3URL: http://www.national.com/packaging/folders/mua08a.html
footprint MUA08A_N (TSOP, 8-Leads, Body 3x3mm, Pitch 0.65mm, IPC Medium Density)
footprint MUA08A_L (TSOP, 8-Leads, Body 3x3mm, Pitch 0.65mm, IPC High Density)
footprint MUA08A_M (TSOP, 8-Leads, Body 3x3mm, Pitch 0.65mm, IPC Low Density)
pins: 1 PWRGD (oc), 2 OV (in), 3 UV (in), 4 VEE (power), 5 SEN (in), 6 GATE (out), 7 TIMER (in), 8 VDD (power)

## LM5068MM-3
designator U?
Negative Voltage Hot Swap Controller; PartNumber: LM5068MM-3; Manufacturer: National Semiconductor; CompType: MiscPower; PackageTopMarking: ZXTT*S68B; Published: 4-Dec-2008; DatasheetVersion: Dec-2004; PackageVersion: revF, Apr-2008; PackageReference: MUA08A; Publisher: Altium Limited; PackageDescription: MINI SOIC, .118 x .118 x .034in, 8 Lead, .0256in Pitch; RoHS: Y; PinCount: 8; DigiKeyPartNumber: LM5068MM-3CT-ND; Code_JEDEC: MO-187-AA; ComponentLink1Description: LM5068 Datasheet; ComponentLink1URL: http://www.national.com/ds/LM/LM5068.pdf; ComponentLink2Description: LM5068 Web Page; ComponentLink2URL: http://www.national.com/pf/LM/LM5068.html; ComponentLink3Description: MUA08A Package Page; ComponentLink3URL: http://www.national.com/packaging/folders/mua08a.html
footprint MUA08A_N (TSOP, 8-Leads, Body 3x3mm, Pitch 0.65mm, IPC Medium Density)
footprint MUA08A_L (TSOP, 8-Leads, Body 3x3mm, Pitch 0.65mm, IPC High Density)
footprint MUA08A_M (TSOP, 8-Leads, Body 3x3mm, Pitch 0.65mm, IPC Low Density)
pins: 1 PWRGD (oc), 2 OV (in), 3 UV (in), 4 VEE (power), 5 SEN (in), 6 GATE (out), 7 TIMER (in), 8 VDD (power)

## LM5068MM-4
designator U?
Negative Voltage Hot Swap Controller; PartNumber: LM5068MM-4; Manufacturer: National Semiconductor; CompType: MiscPower; PackageTopMarking: ZXTT*S69B; Published: 4-Dec-2008; DatasheetVersion: Dec-2004; PackageVersion: revF, Apr-2008; PackageReference: MUA08A; Publisher: Altium Limited; PackageDescription: MINI SOIC, .118 x .118 x .034in, 8 Lead, .0256in Pitch; RoHS: Y; PinCount: 8; DigiKeyPartNumber: LM5068MM-4CT-ND; Code_JEDEC: MO-187-AA; ComponentLink1Description: LM5068 Datasheet; ComponentLink1URL: http://www.national.com/ds/LM/LM5068.pdf; ComponentLink2Description: LM5068 Web Page; ComponentLink2URL: http://www.national.com/pf/LM/LM5068.html; ComponentLink3Description: MUA08A Package Page; ComponentLink3URL: http://www.national.com/packaging/folders/mua08a.html
footprint MUA08A_N (TSOP, 8-Leads, Body 3x3mm, Pitch 0.65mm, IPC Medium Density)
footprint MUA08A_L (TSOP, 8-Leads, Body 3x3mm, Pitch 0.65mm, IPC High Density)
footprint MUA08A_M (TSOP, 8-Leads, Body 3x3mm, Pitch 0.65mm, IPC Low Density)
pins: 1 PWRGD (oc), 2 OV (in), 3 UV (in), 4 VEE (power), 5 SEN (in), 6 GATE (out), 7 TIMER (in), 8 VDD (power)

## LM5069MM-1
designator U?
Positive High Voltage Hot Swap / Inrush Current Controller with Power Limiting; PartNumber: LM5069MM-1; Manufacturer: National Semiconductor; CompType: MiscPower; PackageTopMarking: ZXTT*SNAB; Published: 4-Dec-2008; DatasheetVersion: Mar-2008; PackageVersion: revB, Jul-2003; PackageReference: MUB10A; Publisher: Altium Limited; PackageDescription: Mini-SO, Molded, .118 x .118 x .034in Body, 10 Lead, .0197in Pitch; RoHS: Y; PinCount: 10; DigiKeyPartNumber: LM5069MM-1CT-ND; Code_JEDEC: MO-187-BA; ComponentLink1Description: LM5069 Datasheet; ComponentLink1URL: http://www.national.com/ds/LM/LM5069.pdf; ComponentLink2Description: LM5069 Web Page; ComponentLink2URL: http://www.national.com/pf/LM/LM5069.html; ComponentLink3Description: MUB10A Package Page; ComponentLink3URL: http://www.national.com/packaging/folders/mub10a.html
footprint MUB10A_N (TSSOP, 10-Leads, Body 3x3mm, Pitch 0.5mm, IPC Medium Density)
footprint MUB10A_L (TSSOP, 10-Leads, Body 3x3mm, Pitch 0.5mm, IPC High Density)
footprint MUB10A_M (TSSOP, 10-Leads, Body 3x3mm, Pitch 0.5mm, IPC Low Density)
pins: 1 SEN (in), 2 VIN (power), 3 UVLO (in), 4 OVLO (in), 5 GND (power), 6 TIMER (in), 7 PWR (in), 8 PGD (oc), 9 OUT (out), 10 GATE (out)

## LM5069MM-2
designator U?
Positive High Voltage Hot Swap / Inrush Current Controller with Power Limiting; PartNumber: LM5069MM-2; Manufacturer: National Semiconductor; CompType: MiscPower; PackageTopMarking: ZXTT*SNBB; Published: 4-Dec-2008; DatasheetVersion: Mar-2008; PackageVersion: revB, Jul-2003; PackageReference: MUB10A; Publisher: Altium Limited; PackageDescription: Mini-SO, Molded, .118 x .118 x .034in Body, 10 Lead, .0197in Pitch; RoHS: Y; PinCount: 10; DigiKeyPartNumber: LM5069MM-2CT-ND; Code_JEDEC: MO-187-BA; ComponentLink1Description: LM5069 Datasheet; ComponentLink1URL: http://www.national.com/ds/LM/LM5069.pdf; ComponentLink2Description: LM5069 Web Page; ComponentLink2URL: http://www.national.com/pf/LM/LM5069.html; ComponentLink3Description: MUB10A Package Page; ComponentLink3URL: http://www.national.com/packaging/folders/mub10a.html
footprint MUB10A_N (TSSOP, 10-Leads, Body 3x3mm, Pitch 0.5mm, IPC Medium Density)
footprint MUB10A_L (TSSOP, 10-Leads, Body 3x3mm, Pitch 0.5mm, IPC High Density)
footprint MUB10A_M (TSSOP, 10-Leads, Body 3x3mm, Pitch 0.5mm, IPC Low Density)
pins: 1 SEN (in), 2 VIN (power), 3 UVLO (in), 4 OVLO (in), 5 GND (power), 6 TIMER (in), 7 PWR (in), 8 PGD (oc), 9 OUT (out), 10 GATE (out)

## LM5070MTC-50
designator U?
Integrated Power Over Ethernet PD Interface and PWM Controller; PartNumber: LM5070MTC-50; Manufacturer: National Semiconductor; CompType: MiscPower; PackageTopMarking: NSUZXYTT*5070M*TC-50; Published: 4-Dec-2008; DatasheetVersion: Apr-2006; PackageVersion: revD, Jun-2003; PackageReference: MTC16; Publisher: Altium Limited; PackageDescription: Molded TSSOP, Jedec, 5 x 4.4 x 0.9mm Body, 16 Lead, 0.65mm Pitch; RoHS: O; PinCount: 16; DigiKeyPartNumber: LM5070MTC-50-ND; Code_JEDEC: MO-153-AB; ComponentLink1Description: LM5070 Datasheet; ComponentLink1URL: http://www.national.com/ds/LM/LM5070.pdf; ComponentLink2Description: LM5070 Web Page; ComponentLink2URL: http://www.national.com/pf/LM/LM5070.html; ComponentLink3Description: MTC16 Package Page; ComponentLink3URL: http://www.national.com/packaging/folders/mtc16.html
footprint MTC16_N (TSOP, 16-Leads, Body 5x4.4mm, Pitch 0.65mm, IPC Medium Density)
footprint MTC16_L (TSOP, 16-Leads, Body 5x4.4mm, Pitch 0.65mm, IPC High Density)
footprint MTC16_M (TSOP, 16-Leads, Body 5x4.4mm, Pitch 0.65mm, IPC Low Density)
pins: 1 VIN (power) "System high potential input.", 2 RSIG "Signature resistor pin.", 3 RCLASS (in) "Classification resistor pin.", 4 UVLO (in) "Line under-voltage lockout.", 5 UVLORTN (in) "Return for the external UVLO resistors.", 6 RCLP (in) "Current limit programming pin.", 7 VEE (power) "System low potential input.", 8 RTN (power) "System return for the PWM converter.", 9 OUT (out) "Output of the PWM controller.", 10 VCC (power) "Output of the internal high voltage series pass regulator. Regulated output voltage is nominally 7.8V.", 11 FB (in) "Feedback signal.", 12 COMP (out) "The output of the error amplifier and input to the Pulse Width Modulator.", 13 CS (in) "Current sense input.", 14 RT/SYNC (in) "Oscillator timing resistor pin and synchronization input.", 15 SS (in) "Soft-start input.", 16 ARTN (power) "Analog PWM supply return."

## LM5070MTC-80
designator U?
Integrated Power Over Ethernet PD Interface and PWM Controller; PartNumber: LM5070MTC-80; Manufacturer: National Semiconductor; CompType: MiscPower; PackageTopMarking: NSUZXYTT*5070M*TC-80; Published: 4-Dec-2008; DatasheetVersion: Apr-2006; PackageVersion: revD, Jun-2003; PackageReference: MTC16; Publisher: Altium Limited; PackageDescription: Molded TSSOP, Jedec, 5 x 4.4 x 0.9mm Body, 16 Lead, 0.65mm Pitch; RoHS: Y; PinCount: 16; DigiKeyPartNumber: LM5070MTC-80-ND; Code_JEDEC: MO-153-AB; ComponentLink1Description: LM5070 Datasheet; ComponentLink1URL: http://www.national.com/ds/LM/LM5070.pdf; ComponentLink2Description: LM5070 Web Page; ComponentLink2URL: http://www.national.com/pf/LM/LM5070.html; ComponentLink3Description: MTC16 Package Page; ComponentLink3URL: http://www.national.com/packaging/folders/mtc16.html
footprint MTC16_N (TSOP, 16-Leads, Body 5x4.4mm, Pitch 0.65mm, IPC Medium Density)
footprint MTC16_L (TSOP, 16-Leads, Body 5x4.4mm, Pitch 0.65mm, IPC High Density)
footprint MTC16_M (TSOP, 16-Leads, Body 5x4.4mm, Pitch 0.65mm, IPC Low Density)
pins: 1 VIN (power) "System high potential input.", 2 RSIG "Signature resistor pin.", 3 RCLASS (in) "Classification resistor pin.", 4 UVLO (in) "Line under-voltage lockout.", 5 UVLORTN (in) "Return for the external UVLO resistors.", 6 RCLP (in) "Current limit programming pin.", 7 VEE (power) "System low potential input.", 8 RTN (power) "System return for the PWM converter.", 9 OUT (out) "Output of the PWM controller.", 10 VCC (power) "Output of the internal high voltage series pass regulator. Regulated output voltage is nominally 7.8V.", 11 FB (in) "Feedback signal.", 12 COMP (out) "The output of the error amplifier and input to the Pulse Width Modulator.", 13 CS (in) "Current sense input.", 14 RT/SYNC (in) "Oscillator timing resistor pin and synchronization input.", 15 SS (in) "Soft-start input.", 16 ARTN (power) "Analog PWM supply return."

## LM5070SD-50
designator U?
Integrated Power Over Ethernet PD Interface and PWM Controller; PartNumber: LM5070SD-50; Manufacturer: National Semiconductor; CompType: MiscPower; PackageTopMarking: NS*UZXYTT*L00051B; Published: 4-Dec-2008; DatasheetVersion: Apr-2006; PackageVersion: revA, May-2003; PackageReference: SDA16A; Publisher: Altium Limited; PackageDescription: LLP, Plastic, Dual, 5 x 5 x 0.8mm Body,16 Lead, 0.5mm Pitch, No Pullback; RoHS: Y; PinCount: 16; DigiKeyPartNumber: LM5070SD-50CT-ND; ComponentLink1Description: LM5070 Datasheet; ComponentLink1URL: http://www.national.com/ds/LM/LM5070.pdf; ComponentLink2Description: LM5070 Web Page; ComponentLink2URL: http://www.national.com/pf/LM/LM5070.html; ComponentLink3Description: SDA16A Package Page; ComponentLink3URL: http://www.national.com/packaging/folders/sda16a.html
footprint SDA16A (SON, 16-Leads, Body 5x5mm, Pitch 0.5mm, NSC Recommended)
pins: 1 VIN (power) "System high potential input.", 2 RSIG "Signature resistor pin.", 3 RCLASS (in) "Classification resistor pin.", 4 UVLO (in) "Line under-voltage lockout.", 5 UVLORTN (in) "Return for the external UVLO resistors.", 6 RCLP (in) "Current limit programming pin.", 7 VEE (power) "System low potential input.", 8 RTN (power) "System return for the PWM converter.", 9 OUT (out) "Output of the PWM controller.", 10 VCC (power) "Output of the internal high voltage series pass regulator. Regulated output voltage is nominally 7.8V.", 11 FB (in) "Feedback signal.", 12 COMP (out) "The output of the error amplifier and input to the Pulse Width Modulator.", 13 CS (in) "Current sense input.", 14 RT/SYNC (in) "Oscillator timing resistor pin and synchronization input.", 15 SS (in) "Soft-start input.", 16 ARTN (power) "Analog PWM supply return.", 17 EP (power) "Exposed PAD, underside of the LLP package option."

## LM5070SD-80
designator U?
Integrated Power Over Ethernet PD Interface and PWM Controller; PartNumber: LM5070SD-80; Manufacturer: National Semiconductor; CompType: MiscPower; PackageTopMarking: NS*UZXYTT*L00052B; Published: 4-Dec-2008; DatasheetVersion: Apr-2006; PackageVersion: revA, May-2003; PackageReference: SDA16A; Publisher: Altium Limited; PackageDescription: LLP, Plastic, Dual, 5 x 5 x 0.8mm Body,16 Lead, 0.5mm Pitch, No Pullback; RoHS: Y; PinCount: 16; DigiKeyPartNumber: LM5070SD-80CT-ND; ComponentLink1Description: LM5070 Datasheet; ComponentLink1URL: http://www.national.com/ds/LM/LM5070.pdf; ComponentLink2Description: LM5070 Web Page; ComponentLink2URL: http://www.national.com/pf/LM/LM5070.html; ComponentLink3Description: SDA16A Package Page; ComponentLink3URL: http://www.national.com/packaging/folders/sda16a.html
footprint SDA16A (SON, 16-Leads, Body 5x5mm, Pitch 0.5mm, NSC Recommended)
pins: 1 VIN (power) "System high potential input.", 2 RSIG "Signature resistor pin.", 3 RCLASS (in) "Classification resistor pin.", 4 UVLO (in) "Line under-voltage lockout.", 5 UVLORTN (in) "Return for the external UVLO resistors.", 6 RCLP (in) "Current limit programming pin.", 7 VEE (power) "System low potential input.", 8 RTN (power) "System return for the PWM converter.", 9 OUT (out) "Output of the PWM controller.", 10 VCC (power) "Output of the internal high voltage series pass regulator. Regulated output voltage is nominally 7.8V.", 11 FB (in) "Feedback signal.", 12 COMP (out) "The output of the error amplifier and input to the Pulse Width Modulator.", 13 CS (in) "Current sense input.", 14 RT/SYNC (in) "Oscillator timing resistor pin and synchronization input.", 15 SS (in) "Soft-start input.", 16 ARTN (power) "Analog PWM supply return.", 17 EP (power) "Exposed PAD, underside of the LLP package option."

## LM5071MT-50
designator U?
Power Over Ethernet PD Controller with Auxiliary Power Interface; PartNumber: LM5071MT-50; Manufacturer: National Semiconductor; CompType: MiscPower; PackageTopMarking: NSUZXYTT*5071MT*-50; Published: 4-Dec-2008; DatasheetVersion: Apr-2006; PackageVersion: revD, Jun-2003; PackageReference: MTC16; Publisher: Altium Limited; PackageDescription: Molded TSSOP, Jedec, 5 x 4.4 x 0.9mm Body, 16 Lead, 0.65mm Pitch; RoHS: Y; PinCount: 16; DigiKeyPartNumber: LM5071MT-50-ND; Code_JEDEC: MO-153-AB; ComponentLink1Description: LM5071 Datasheet; ComponentLink1URL: http://www.national.com/ds/LM/LM5071.pdf; ComponentLink2Description: LM5071 Web Page; ComponentLink2URL: http://www.national.com/pf/LM/LM5071.html; ComponentLink3Description: MTC16 Package Page; ComponentLink3URL: http://www.national.com/packaging/folders/mtc16.html
footprint MTC16_N (TSOP, 16-Leads, Body 5x4.4mm, Pitch 0.65mm, IPC Medium Density)
footprint MTC16_L (TSOP, 16-Leads, Body 5x4.4mm, Pitch 0.65mm, IPC High Density)
footprint MTC16_M (TSOP, 16-Leads, Body 5x4.4mm, Pitch 0.65mm, IPC Low Density)
pins: 1 VIN (power) "System high potential input.", 2 RSIG "Signature resistor pin.", 3 RCLASS (in) "Classification resistor pin.", 4 AUX (in) "Auxiliary input power startup pin.", 5 UVLO (in) "Line under-voltage lockout.", 6 UVLORTN (in) "Return for the external UVLO resistors.", 7 VEE (power) "System low potential input.", 8 RTN (power) "System return for the PWM converter.", 9 OUT (out) "Output of the PWM controller.", 10 VCC (power) "Output of the internal high voltage series pass regulator. Regulated output voltage is nominally 7.8V.", 11 FB (in) "Feedback signal.", 12 COMP (out) "The output of the error amplifier and input to the Pulse Width Modulator.", 13 CS (in) "Current sense input.", 14 RT/SYNC (in) "Oscillator timing resistor pin and synchronization input.", 15 SS (in) "Soft-start input.", 16 ARTN (power) "Analog PWM supply return."